# Altium schematic symbol library Sensor_Gas.SchLib: 9 symbols
Pins are listed as number, name and electrical type; pins without a type are passive.

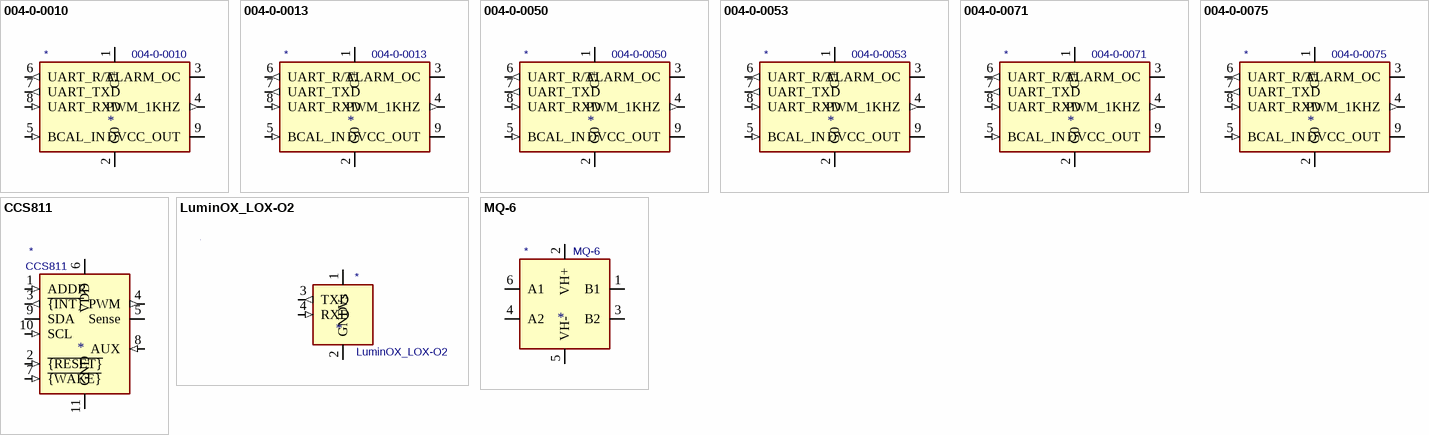
[diagram p0: symbols 004-0-0010 to MQ-6]

## 004-0-0010
designator *  value 004-0-0010
ki_keywords: Senseair co2 gas sensor pwm modbus; ki_description: S8 Commercial, CO2 sensor, 400-2000 PPM, 1kHz PWM output, Modbus, THT; ki_fp_filters: Senseair*S8*; Supplier: https://rmtplusstoragesenseair.blob.core.windows.net/docs/publicerat/PSP103.pdf
pins: 1 G+ (power), 2 G0 (power), 3 ALARM_OC (oc), 4 PWM_1KHZ (out), 5 BCAL_IN (in), 6 UART_R/T (out), 7 UART_TXD (out), 8 UART_RXD (in), 9 DVCC_OUT (power)

## 004-0-0013
designator *  value 004-0-0013
ki_keywords: Senseair co2 gas sensor pwm modbus; ki_description: S8 Residential, CO2 sensor, 400-2000 PPM, 1kHz PWM output, Modbus, THT; ki_fp_filters: Senseair*S8*; Supplier: https://rmtplusstoragesenseair.blob.core.windows.net/docs/publicerat/PSP107.pdf
pins: 1 G+ (power), 2 G0 (power), 3 ALARM_OC (oc), 4 PWM_1KHZ (out), 5 BCAL_IN (in), 6 UART_R/T (out), 7 UART_TXD (out), 8 UART_RXD (in), 9 DVCC_OUT (power)

## 004-0-0050
designator *  value 004-0-0050
ki_keywords: Senseair co2 gas sensor pwm modbus; ki_description: S8 2%, CO2 sensor, 0.04-2% by volume, 1kHz PWM output, Modbus, THT; ki_fp_filters: Senseair*S8*; Supplier: https://rmtplusstoragesenseair.blob.core.windows.net/docs/publicerat/PSP108.pdf
pins: 1 G+ (power), 2 G0 (power), 3 ALARM_OC (oc), 4 PWM_1KHZ (out), 5 BCAL_IN (in), 6 UART_R/T (out), 7 UART_TXD (out), 8 UART_RXD (in), 9 DVCC_OUT (power)

## 004-0-0053
designator *  value 004-0-0053
ki_keywords: Senseair co2 gas sensor pwm modbus; ki_description: S8 LP, CO2 sensor, 400-2000 PPM, 1kHz PWM output, Modbus, THT; ki_fp_filters: Senseair*S8*; Supplier: https://rmtplusstoragesenseair.blob.core.windows.net/docs/publicerat/PSP126.pdf
pins: 1 G+ (power), 2 G0 (power), 3 ALARM_OC (oc), 4 PWM_1KHZ (out), 5 BCAL_IN (in), 6 UART_R/T (out), 7 UART_TXD (out), 8 UART_RXD (in), 9 DVCC_OUT (power)

## 004-0-0071
designator *  value 004-0-0071
ki_keywords: Senseair co2 gas sensor pwm modbus; ki_description: S8 5%, CO2 sensor, 0.04-5% by volume, 1kHz PWM output, Modbus, THT; ki_fp_filters: Senseair*S8*; Supplier: https://rmtplusstoragesenseair.blob.core.windows.net/docs/publicerat/PSP0113.pdf
pins: 1 G+ (power), 2 G0 (power), 3 ALARM_OC (oc), 4 PWM_1KHZ (out), 5 BCAL_IN (in), 6 UART_R/T (out), 7 UART_TXD (out), 8 UART_RXD (in), 9 DVCC_OUT (power)

## 004-0-0075
designator *  value 004-0-0075
ki_keywords: Senseair co2 gas sensor pwm modbus; ki_description: S8 Commercial, CO2 sensor, 400-2000 PPM, 1kHz PWM output, Modbus, THT; ki_fp_filters: Senseair*S8*; Supplier: https://rmtplusstoragesenseair.blob.core.windows.net/docs/publicerat/PSP103.pdf
pins: 1 G+ (power), 2 G0 (power), 3 ALARM_OC (oc), 4 PWM_1KHZ (out), 5 BCAL_IN (in), 6 UART_R/T (out), 7 UART_TXD (out), 8 UART_RXD (in), 9 DVCC_OUT (power)

## CCS811
designator *  value CCS811
ki_keywords: metal oxide gas sensor MOX volatile organix comounds VOC I2C; ki_description: Ultra-low power digital gas sensor for monitoring indoor air quality; ki_fp_filters: AMS?LGA*EP*2.7x4mm*P0.6mm*; Footprint: Package_LGA:AMS_LGA-10-1EP_2.7x4mm_P0.6mm; Supplier: http://ams.com/eng/Products/Environmental-Sensors/Air-Quality-Sensors/CCS811
footprint AMS_LGA-10-1EP_2.7x4mm_P0.6mm
pins: 1 ADDR (in), 2 ~{{RESET}} (in), 3 ~{{INT}} (out), 4 PWM (out), 5 Sense (io), 6 VDD (power), 7 ~{{WAKE}} (in), 8 AUX (in), 9 SDA (io), 10 SCL (in), 11 GND (power)

## LuminOX_LOX-O2
designator *  value LuminOX_LOX-O2
ki_keywords: O2 sensor; ki_description: SST LuminOX Luminescence-based O2 sensor; ki_fp_filters: LuminOX?LOX?O2*; Footprint: Sensor:LuminOX_LOX-O2; Supplier: https://sstsensing.com/wp-content/uploads/2021/08/DS0030rev15_LuminOx.pdf
footprint LuminOX_LOX-O2
pins: 1 Vs (power), 2 GND (power), 3 TXD (out), 4 RXD (in)

## MQ-6
designator *  value MQ-6
ki_keywords: flammable gas sensor LPG; ki_description: Semiconductor Sensor for Flammable Gas; ki_fp_filters: *MQ*6*; Footprint: Sensor:MQ-6; Supplier: https://www.winsen-sensor.com/d/files/semiconductor/mq-6.pdf
footprint MQ-6
pins: 1 B1, 2 VH+ (power), 3 B2, 4 A2, 5 VH- (power), 6 A1